# EAGLE library part UCC272 (library mosfet_drivers)
Half-Bridge Gate Driver IC Non-Inverting 8-SO PowerPad
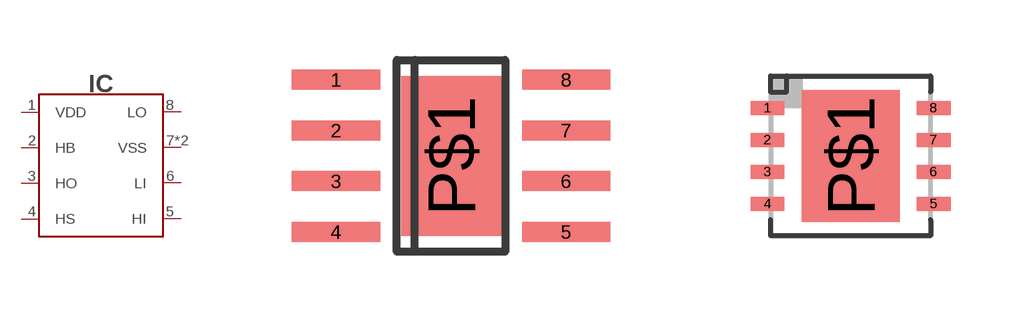
[diagram p9: symbol with the pads of SOIC8-POWERPAD; footprints SOIC8-POWERPAD, VDFN-8]

Designator prefix IC

## UCC272-SO8-POWERPAD (DIGIKEY#: 296-28428-1-ND; MANF: Texas Instruments; MANF#: UCC27201ADDAR)  [SOIC8-POWERPAD]
1  VDD
2  HB
3  HO
4  HS
5  HI
6  LI
7  VSS
8  LO
P$1  VSS

## UCC272-VDFN-8 (DIGIKEY#: 296-UCC27201ADRMRTR-ND; MANF: Texas Instruments; MANF#: UCC27201ADRMR)  [VDFN-8]
Pads as for SOIC8-POWERPAD

## UCC272-VDFN-HEAVY_PCB (DIGIKEY#: 296-UCC27201ADRMRTR-ND; MANF: Texas Instruments; MANF#: UCC27201ADRMR)  [VDFN-8-HEAVY-PCB]
Pads as for SOIC8-POWERPAD

## Footprint SOIC8-POWERPAD (pad centres in mm)
Please refer to the datasheet <https://www.ti.com/lit/ds/symlink/ucc27201a.pdf?HQS=TI-null-null-digikeymode-df-pf-null-wwe&ts=1600947442497>, section DDA
smd 2.2 x 0.5: 1 -2.875,1.905; 2 -2.875,0.635; 3 -2.875,-0.635; 4 -2.875,-1.905; 5 2.875,-1.905; 6 2.875,-0.635; 7 2.875,0.635; 8 2.875,1.905
smd 2.5 x 4: P$1 0,0

## Footprint VDFN-8 (pad centres in mm)
smd 0.85 x 0.35: 1 -2.075,1.2; 2 -2.075,0.4; 3 -2.075,-0.4; 4 -2.075,-1.2; 5 2.075,-1.2; 6 2.075,-0.4; 7 2.075,0.4; 8 2.075,1.2
smd 2.45 x 3.3: P$1 0,0

## Footprint VDFN-8-HEAVY-PCB (pad centres in mm)
SMD pads in this footrpint are made slightly bigger to be compatible with 4 oz copper PCB.
smd 0.85 x 0.4: 1 -2.075,1.2; 2 -2.075,0.4; 3 -2.075,-0.4; 4 -2.075,-1.2; 5 2.075,-1.2; 6 2.075,-0.4; 7 2.075,0.4; 8 2.075,1.2
smd 2.45 x 3.3: P$1 0,0